# Altium footprint library SOT323-5.PcbLib: 1 footprints
Each footprint in its own frame and in the unit in brackets; x right, y up, seen from the top. Pads: shape width x height; smd on the part's side, far side on the other; paste and mask are expansions set on the pad; w line width, h text height; cw(c..) or ccw(c..) is an arc to the next point about the centre after c.
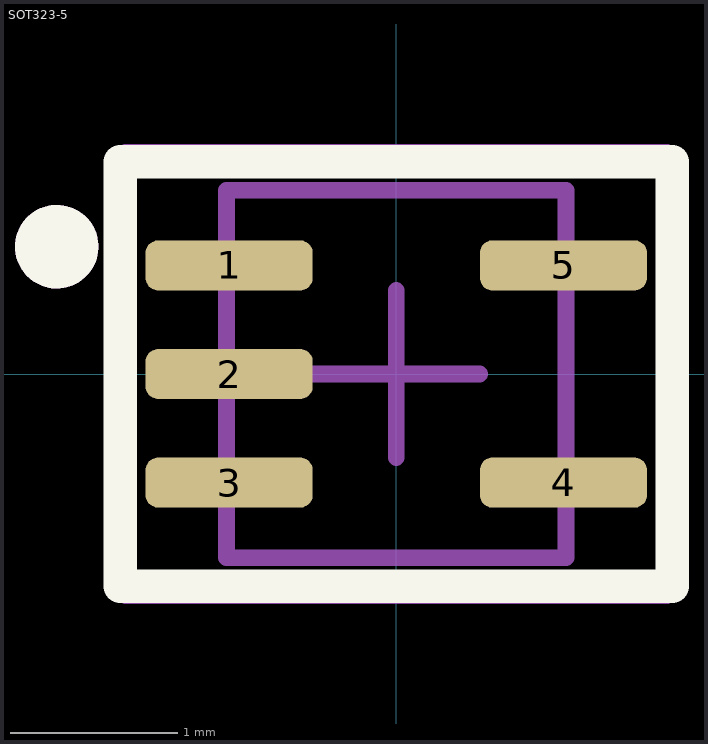
[diagram p0: the footprint, top view; thin cyan lines are the x and y axes]

## SOT323-5 [mm]
pads (5):
  rrect50% 1x0.3 smd: 1(-1,0.65) 2(-1,0) 3(-1,-0.65) 4(1,-0.65) 5(1,0.65)
Top Overlay:
  circle w0.25: c-2.032,0.762 r0.125
  lines w0.2: -1.651,-1.27 1.651,-1.27 1.651,1.27 -1.651,1.27 -1.651,-1.27
Mechanical 1:
  circle w0.25: c-2.032,0.762 r0.125
  lines w0.1: -1.016,-1.1 -1.016,1.1 1.016,1.1 1.016,-1.1 -1.016,-1.1
  text ".DESIGNATOR" at 0,-0.127 h1.2
Mechanical 15:
  lines w0.05: -1.625,-1.35 -1.625,1.35 1.625,1.35 1.625,-1.35 -1.625,-1.35
  lines w0.1: -0.5,0 0.5,0 ; 0,-0.5 0,0.5
3D body "User Library-SOT-323-5L.STEP": height 1, standoff 0, extent -1.051,-1.05 1.051,1.05